# Altium footprint library Raspberry_PI_Pico.PcbLib: 1 footprints
Each footprint in its own frame and in the unit in brackets; x right, y up, seen from the top. Pads: shape width x height; smd on the part's side, far side on the other; paste and mask are expansions set on the pad; w line width, h text height; cw(c..) or ccw(c..) is an arc to the next point about the centre after c.
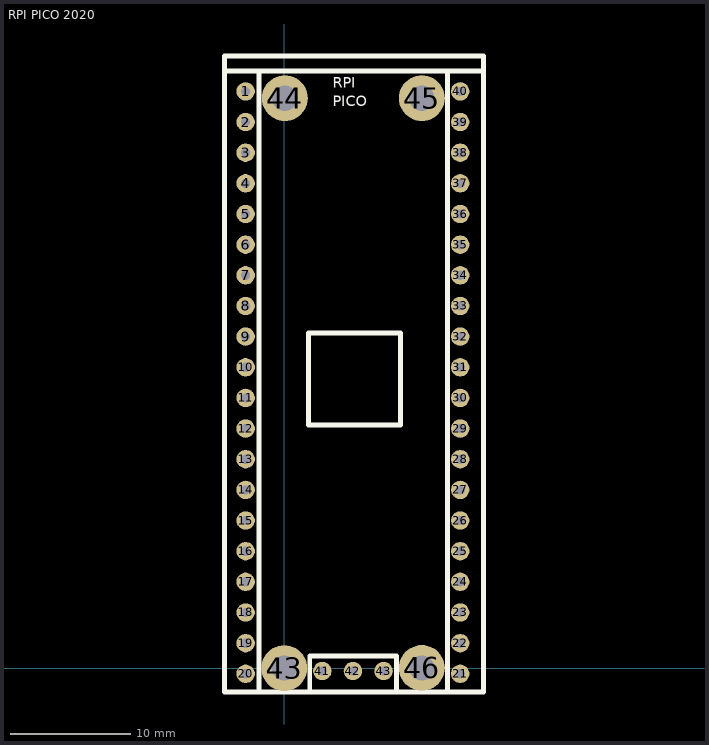
[diagram p0: the footprint, top view; thin cyan lines are the x and y axes]

## RPI PICO 2020 [mil]
pads (47):
  round 60 hole 30: 1(-126,1881.26) 2(-126,1781.26) 3(-126,1681.26) 4(-126,1581.26) 5(-126,1481.26) 6(-126,1381.26) 7(-126,1281.26) 8(-126,1181.26) 9(-126,1081.26) 10(-126,981.26) 11(-126,881.26) 12(-126,781.26) 13(-126,681.26) 14(-126,581.26) 15(-126,481.26) 16(-126,381.26) 17(-126,281.26) 18(-126,181.26) 19(-126,81.26) 20(-126,-18.74) 21(574,-18.74) 22(574,81.26) 23(574,181.26) 24(574,281.26) 25(574,381.26) 26(574,481.26) 27(574,581.26) 28(574,681.26) 29(574,781.26) 30(574,881.26) 31(574,981.26) 32(574,1081.26) 33(574,1181.26) 34(574,1281.26) 35(574,1381.26) 36(574,1481.26) 37(574,1581.26) 38(574,1681.26) 39(574,1781.26) 40(574,1881.26) 41(124,-9.68) 42(224,-9.68) 43(324,-9.68)
  round 149.61 hole 82.68 mask+4: 43(0,0) 44(2,1859.26) 46(448.82,0.26)
  round 149.61 hole 82.68: 45(448.82,1859.26)
Top Overlay:
  lines w16: -192,1947.32 94,1947.32 645,1947.32 cw(c645,1943.32) 649,1943.32 ; -82,-76 -82,1943.32 ; 83,-77.68 83,39.32 366,39.32 366,-78.68 ; 533,-78 533,1945.32 ; -195,-78.68 650,-78.68 650,1981.26 650,1997.32 -195,1997.32 -195,1981.26 -195,-78.68 ; 79,793.32 379,793.32 379,1093.32 79,1093.32 79,793.32
  text "RPI / PICO" at 158.31,1821 h60
Mechanical 1:
  text "PCB EDGE FOR USB" at 53.93,1961 h30
3D body "Pico-R3.step": height 127.17, standoff -19.68, extent -186,-71.68 640.77,1987.37